# Altium schematic symbol library Board2.SchLib: 27 symbols
Pins are listed as number, name and electrical type; pins without a type are passive.

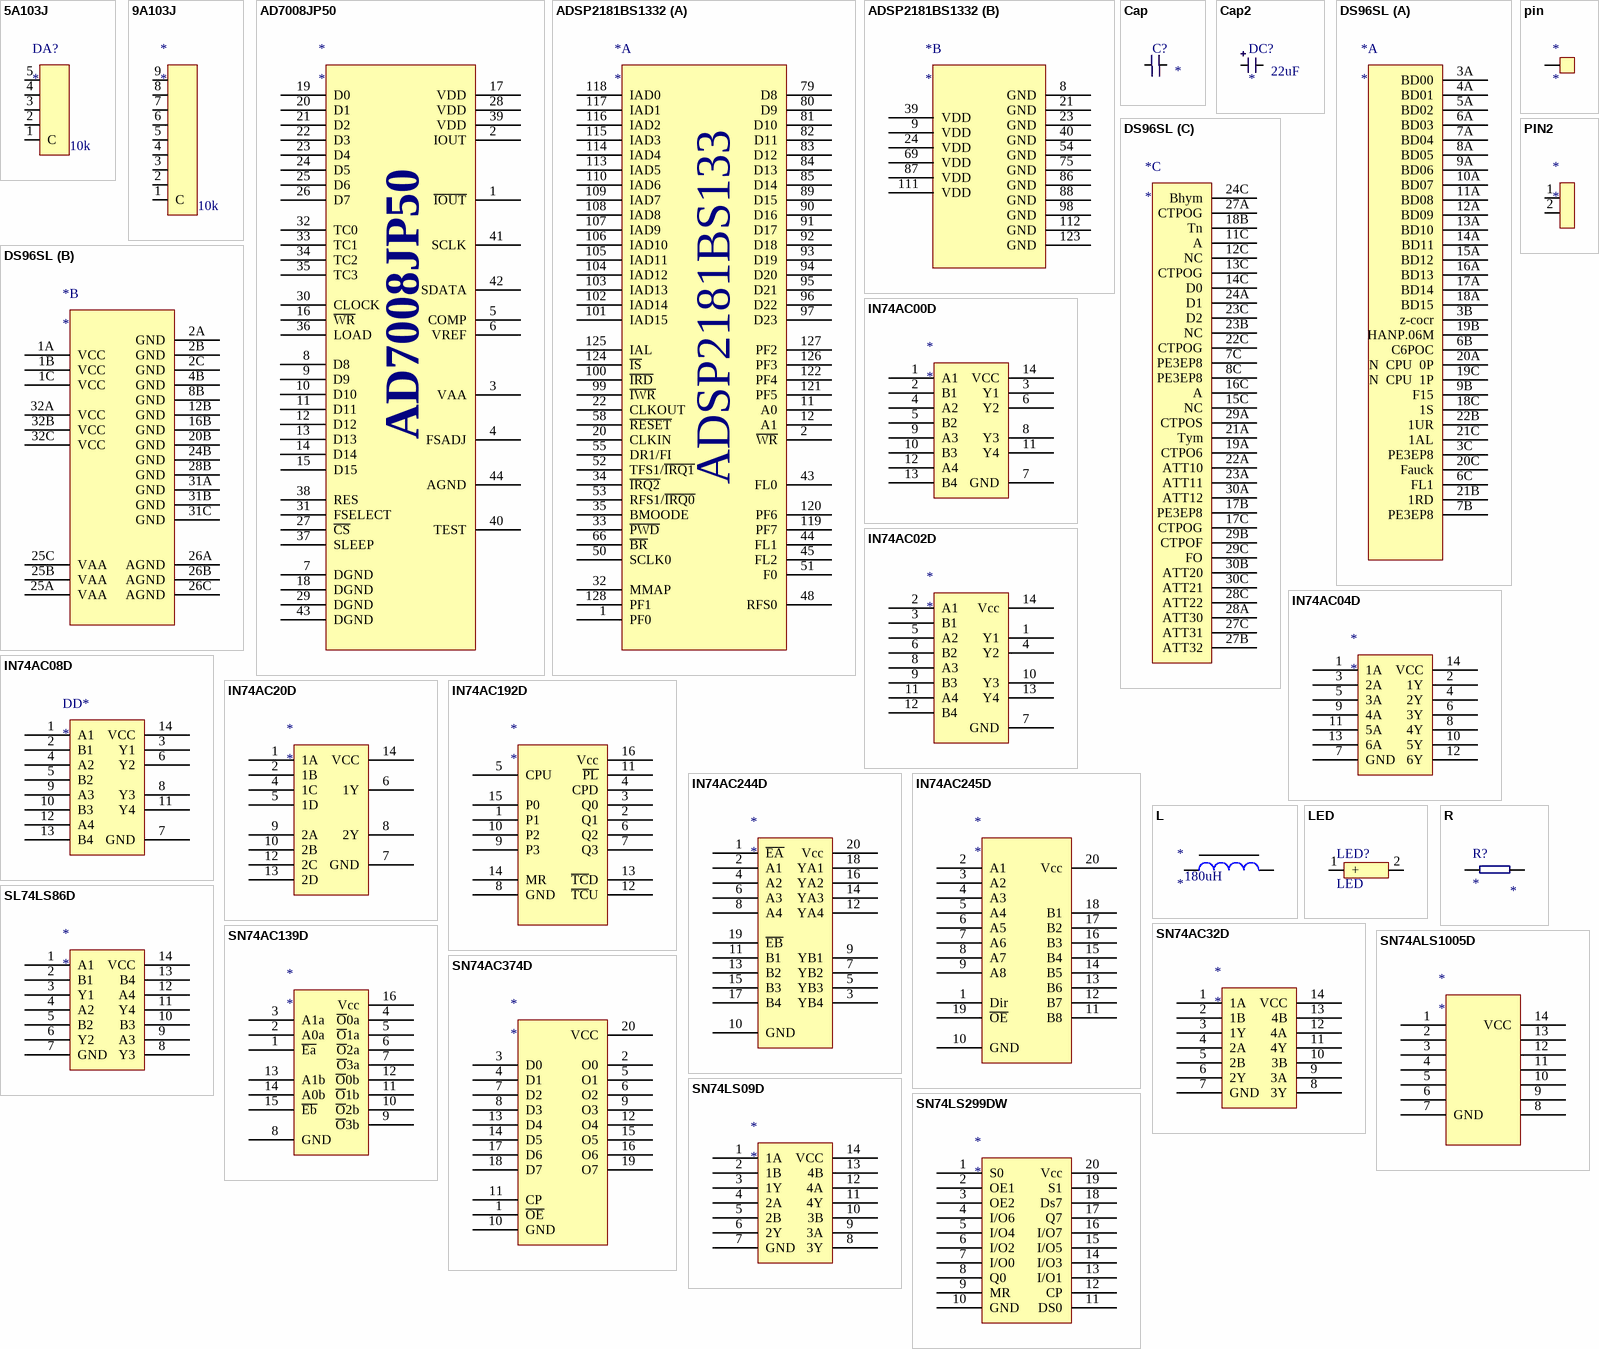
[diagram p0: symbols 5A103J to SN74LS299DW]

## 5A103J
designator DA?  value 10k
footprint 5 SIP
pins: 1 C, 2, 3, 4, 5

## 9A103J
designator *  value 10k
footprint 9 SIP
pins: 1 C, 2, 3, 4, 5, 6, 7, 8, 9

## AD7008JP50
designator *
footprint 44 PLCC
pins: 1 ~{IOUT}, 2 IOUT, 3 VAA, 4 FSADJ, 5 COMP, 6 VREF, 7 DGND, 8 D8, 9 D9, 10 D10, 11 D11, 12 D12, 13 D13, 14 D14, 15 D15, 16 ~{WR}, 17 VDD, 18 DGND, 19 D0, 20 D1, 21 D2, 22 D3, 23 D4, 24 D5, 25 D6, 26 D7, 27 ~{CS}, 28 VDD, 29 DGND, 30 CLOCK, 31 FSELECT, 32 TC0, 33 TC1, 34 TC2, 35 TC3, 36 LOAD, 37 SLEEP, 38 RES, 39 VDD, 40 TEST, 41 SCLK, 42 SDATA, 43 DGND, 44 AGND

## ADSP2181BS1332
designator *
footprint 128 PQFP
part A pins: 1 PF0, 2 ~{WR}, 11 A0, 12 A1, 20 CLKIN, 22 CLKOUT, 32 MMAP, 33 ~{PWD}, 34 ~{IRQ2}, 35 BMOODE, 43 FL0, 44 FL1, 45 FL2, 48 RFS0, 50 SCLK0, 51 F0, 52 TFS1/~{IRQ1}, 53 RFS1/~{IRQ0}, 55 DR1/FI, 58 ~{RESET}, 66 ~{BR}, 79 D8, 80 D9, 81 D10, 82 D11, 83 D12, 84 D13, 85 D14, 89 D15, 90 D16, 91 D17, 92 D18, 93 D19, 94 D20, 95 D21, 96 D22, 97 D23, 99 ~{IWR}, 100 ~{IRD}, 101 IAD15, 102 IAD14, 103 IAD13, 104 IAD12, 105 IAD11, 106 IAD10, 107 IAD9, 108 IAD8, 109 IAD7, 110 IAD6, 113 IAD5, 114 IAD4, 115 IAD3, 116 IAD2, 117 IAD1, 118 IAD0, 119 PF7, 120 PF6, 121 PF5, 122 PF4, 124 ~{IS}, 125 IAL, 126 PF3, 127 PF2, 128 PF1
part B pins: 8 GND, 9 VDD, 21 GND, 23 GND, 24 VDD, 39 VDD, 40 GND, 54 GND, 69 VDD, 75 GND, 86 GND, 87 VDD, 88 GND, 98 GND, 111 VDD, 112 GND, 123 GND
part A text: ADSP2181BS133

## Cap
designator C?
Value: *
footprint 0805
pins: 1, 2 0

## Cap2
designator DC?  value 22uF
footprint B(1812)
pins: 1, 2 0

## DS96SL
designator *
footprint DS96
part A pins: 3A BD00, 3B z-cocr, 3C PE3EP8, 4A BD01, 5A BD02, 6A BD03, 6B C6POC, 6C FL1, 7A BD04, 7B PE3EP8, 8A BD05, 9A BD06, 9B F15, 10A BD07, 11A BD08, 12A BD09, 13A BD10, 14A BD11, 15A BD12, 16A BD13, 17A BD14, 18A BD15, 18C 1S, 19B HANP.06M, 19C N  CPU  1P, 20A N  CPU  0P, 20C Fauck, 21B 1RD, 21C 1AL, 22B 1UR
part B pins: 1A VCC , 1B VCC, 1C VCC, 2A GND, 2B GND, 2C GND, 4B GND, 8B GND, 12B GND, 16B GND, 20B GND, 24B GND, 25A VAA, 25B VAA, 25C VAA, 26A AGND, 26B AGND, 26C AGND, 28B GND, 31A GND, 31B GND, 31C GND, 32A VCC, 32B VCC, 32C VCC
part C pins: 7C PE3EP8, 8C PE3EP8, 11C A, 12C NC, 13C CTPOG, 14C D0, 15C NC, 16C A, 17B PE3EP8, 17C CTPOG, 18B Tn, 19A CTPO6, 21A Tym, 22A ATT10, 22C CTPOG, 23A ATT11, 23B NC, 23C D2, 24A D1, 24C Bhym, 27A CTPOG, 27B ATT32, 27C ATT31, 28A ATT30, 28C ATT22, 29A CTPOS, 29B CTPOF, 29C FO, 30A ATT12, 30B ATT20, 30C ATT21

## IN74AC00D
designator *
footprint 14 SOIC-3.9
pins: 1 A1, 2 B1, 3 Y1, 4 A2, 5 B2, 6 Y2, 7 GND, 8 Y3, 9 A3, 10 B3, 11 Y4, 12 A4, 13 B4, 14 VCC

## IN74AC02D
designator *
footprint 14 SOIC-3.9
pins: 1 Y1, 2 A1, 3 B1, 4 Y2, 5 A2, 6 B2, 7 GND, 8 A3, 9 B3, 10 Y3, 11 A4, 12 B4, 13 Y4, 14 Vcc

## IN74AC04D
designator *
footprint 14 SOIC-3.9
pins: 1 1A, 2 1Y, 3 2A, 4 2Y, 5 3A, 6 3Y, 7 GND, 8 4Y, 9 4A, 10 5Y, 11 5A, 12 6Y, 13 6A, 14 VCC

## IN74AC08D
designator DD*
footprint 14 TSSOP-4.4
pins: 1 A1, 2 B1, 3 Y1, 4 A2, 5 B2, 6 Y2, 7 GND, 8 Y3, 9 A3, 10 B3, 11 Y4, 12 A4, 13 B4, 14 VCC

## IN74AC20D
designator *
footprint 14 SOIC-3.9
pins: 1 1A, 2 1B, 4 1C, 5 1D, 6 1Y, 7 GND, 8 2Y, 9 2A, 10 2B, 12 2C, 13 2D, 14 VCC

## IN74AC192D
designator *
footprint 16 SOIC-3.9
pins: 1 P1, 2 Q1, 3 Q0, 4 CPD, 5 CPU, 6 Q2, 7 Q3, 8 GND, 9 P3, 10 P2, 11 ~{PL}, 12 ~{TC}U, 13 ~{TC}D, 14 MR, 15 P0, 16 Vcc

## IN74AC244D
designator *
footprint 20 SOIC-7.5
pins: 1 ~{EA}, 2 A1, 3 YB4, 4 A2, 5 YB3, 6 A3, 7 YB2, 8 A4, 9 YB1, 10 GND, 11 B1, 12 YA4, 13 B2, 14 YA3, 15 B3, 16 YA2, 17 B4, 18 YA1, 19 ~{EB}, 20 Vcc

## IN74AC245D
designator *
footprint 20 SSOP-4.4
pins: 1 Dir, 2 A1, 3 A2, 4 A3, 5 A4, 6 A5, 7 A6, 8 A7, 9 A8, 10 GND, 11 B8, 12 B7, 13 B6, 14 B5, 15 B4, 16 B3, 17 B2, 18 B1, 19 ~{OE}, 20 Vcc

## L
designator *  value 180uH
footprint E(1820)
pins: 1, 2

## LED
designator LED?
footprint LED
pins: 1 +, 2

## pin
designator *
footprint 1 SIP
pins: 1

## PIN2
designator *
footprint 2 SIP
pins: 1, 2

## R
designator R?
Value: *
footprint 0805
pins: 1, 2 0

## SL74LS86D
designator *
pins: 1 A1, 2 B1, 3 Y1, 4 A2, 5 B2, 6 Y2, 7 GND, 8 Y3, 9 A3, 10 B3, 11 Y4, 12 A4, 13 B4, 14 VCC

## SN74AC32D
designator *
pins: 1 1A, 2 1B, 3 1Y, 4 2A, 5 2B, 6 2Y, 7 GND, 8 3Y, 9 3A, 10 3B, 11 4Y, 12 4A, 13 4B, 14 VCC

## SN74AC139D
designator *
footprint 16 SOIC-3.9
pins: 1 ~{Ea}, 2 A0a, 3 A1a, 4 ~{O}0a, 5 ~{O}1a, 6 ~{O}2a, 7 ~{O}3a, 8 GND, 9 ~{O}3b, 10 ~{O}2b, 11 ~{O}1b, 12 ~{O}0b, 13 A1b, 14 A0b, 15 ~{Eb}, 16 Vcc

## SN74AC374D
designator *
footprint 20 SOIC-7.5
pins: 1 ~{OE}, 2 O0, 3 D0, 4 D1, 5 O1, 6 O2, 7 D2, 8 D3, 9 O3, 10 GND, 11 CP, 12 O4, 13 D4, 14 D5, 15 O5, 16 O6, 17 D6, 18 D7, 19 O7, 20 VCC

## SN74ALS1005D
designator *
footprint 14 SOIC-3.9
pins: 1, 2, 3, 4, 5, 6, 7 GND, 8, 9, 10, 11, 12, 13, 14 VCC

## SN74LS09D
designator *
pins: 1 1A, 2 1B, 3 1Y, 4 2A, 5 2B, 6 2Y, 7 GND, 8 3Y, 9 3A, 10 3B, 11 4Y, 12 4A, 13 4B, 14 VCC

## SN74LS299DW
designator *
footprint SOIC 20-lead narrow
pins: 1 S0, 2 OE1, 3 OE2, 4 I/O6, 5 I/O4, 6 I/O2, 7 I/O0, 8 Q0, 9 MR, 10 GND, 11 DS0, 12 CP, 13 I/O1, 14 I/O3, 15 I/O5, 16 I/O7, 17 Q7, 18 Ds7, 19 S1, 20 Vcc